# Altium schematic symbol library Diode_Vishay_SS16-E3-61T_eec.SchLib: 1 symbol
Pins are listed as number, name and electrical type; pins without a type are passive.

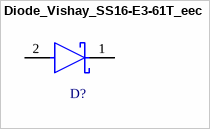
[diagram p0: symbol Diode_Vishay_SS16-E3-61T_eec]

## Diode_Vishay_SS16-E3-61T_eec
designator D?
Diode Schottky 60V 1A Surface Mount DO-214AC (SMA); Part Number: SS16-E3/61T; Manufacturer: Vishay; Voltage - Forward (Vf) (Max) @ If: 750mV @ 1A; Current - Reverse Leakage @ Vr: 200µA @ 60V; helpURL: https://upverter.com/upn/revision/46fb9ccadf7e3052/; ComponentLink2Description: Datasheet; Temperature: -65°C to +150°C; Package: DO-214AC; Supplier 2: Mouser; Price: 0.180579591464; Supplier 1: Digi-Key; ComponentLink1URL: https://upverter.com/upn/revision/46fb9ccadf7e3052/; Supplier Part Number 2: 625-SS16-E3; Supplier Part Number 1: SS16-E3/61TGICT-ND; ComponentLink1Description: Upverter; ComponentLink2URL: http://www.vishay.com/docs/88746/ss12.pdf; RoHS: TRUE; Mouser Part Number: 625-SS16-E3; Temperature Range High: +150°C; Digikey Description: Diode Schottky 60V 1A Surface Mount DO-214AC (SMA); Digikey Part Number: SS16-E3/61TGICT-ND; Current - Average Rectified (Io): 1A; Lead Free: yes; Voltage - DC Reverse (Vr) (Max): 60V; Temperature Range Low: -65°C
footprint Vishay_SS16-E3-61T_0
footprint Vishay_SS16-E3-61T_0
pins: 1 C, 2 A